# Altium footprint library Transformer.PcbLib: 1 footprints
Each footprint in its own frame and in the unit in brackets; x right, y up, seen from the top. Pads: shape width x height; smd on the part's side, far side on the other; paste and mask are expansions set on the pad; w line width, h text height; cw(c..) or ccw(c..) is an arc to the next point about the centre after c.
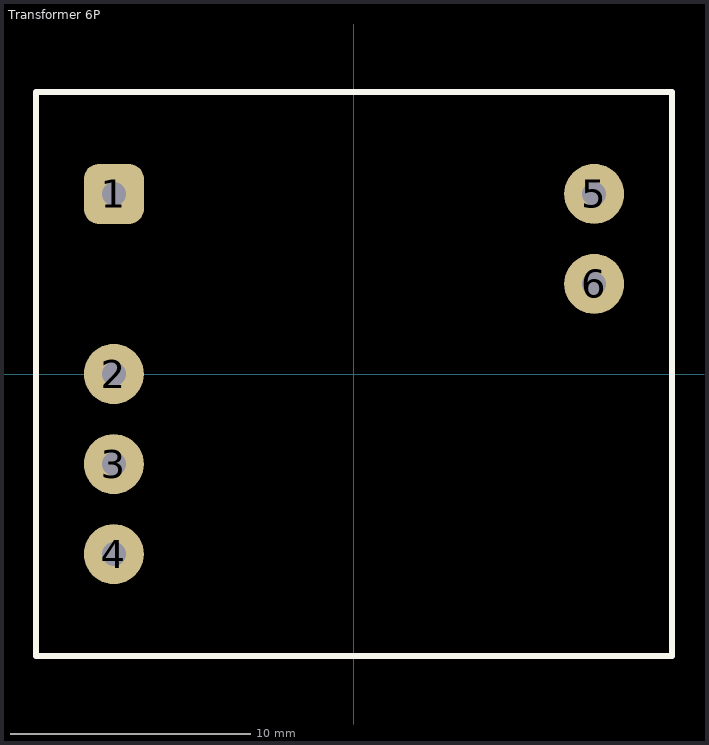
[diagram p0: the footprint, top view; thin cyan lines are the x and y axes]

## Transformer 6P [mm]
pads (6):
  rrect50% 2.5x2.5 hole 1: 1(-10,7.5)
  round 2.5 hole 1: 2(-10,0) 3(-10,-3.75) 4(-10,-7.5) 5(10,7.5) 6(10,3.75)
Top Overlay:
  lines w0.254: -13.25,-11.75 13.25,-11.75 13.25,11.75 -13.25,11.75 -13.25,-11.75
Mechanical 15:
  lines w0.254: -13.25,-11.75 13.25,-11.75 13.25,11.75 -13.25,11.75 -13.25,-11.75
Mechanical 29:
  text "'.Designator'" at -6.096,-1.143 h1.52
3D body "User Library-PQ2620H-6+6Pin.STEP": height 25.02, standoff -4.52, extent -10.699,-13.198 10.551,13.452